# EAGLE library part MM74HC595 (library futz)
Fairchild MM74HC595 Shift Register
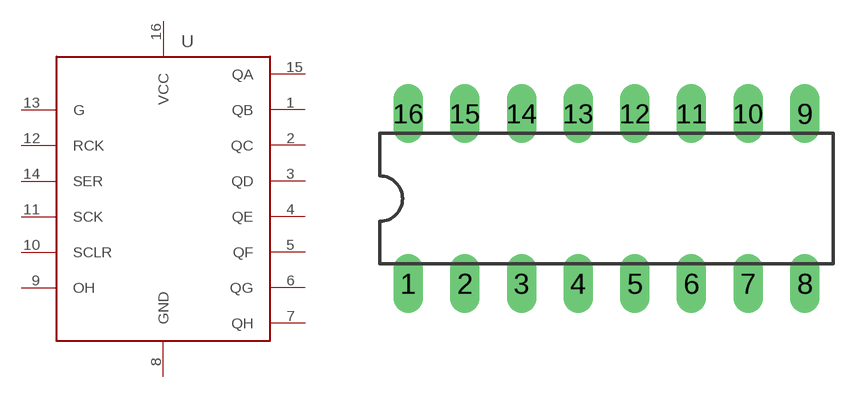
[diagram p12: symbol with the pads of DIL16; footprint DIL16]

Designator prefix -

## MM74HC595  [DIL16]
1  QB  out
2  QC  out
3  QD  out
4  QE  out
5  QF  out
6  QG  out
7  QH  out
8  GND  pwr
9  OH  out
10  SCLR  in
11  SCK  in
12  RCK  in
13  G  in
14  SER  in
15  QA  out
16  VCC  pwr

## Footprint DIL16 (pad centres in mm)
drill 0.813 long: 1 -8.89,-3.81; 2 -6.35,-3.81; 3 -3.81,-3.81; 4 -1.27,-3.81; 5 1.27,-3.81; 6 3.81,-3.81; 7 6.35,-3.81; 8 8.89,-3.81; 9 8.89,3.81; 10 6.35,3.81; 11 3.81,3.81; 12 1.27,3.81; 13 -1.27,3.81; 14 -3.81,3.81; 15 -6.35,3.81; 16 -8.89,3.81